# Altium footprint library dem_2_800_800_450.PcbLib: 1 footprints
Each footprint in its own frame and in the unit in brackets; x right, y up, seen from the top. Pads: shape width x height; smd on the part's side, far side on the other; paste and mask are expansions set on the pad; w line width, h text height; cw(c..) or ccw(c..) is an arc to the next point about the centre after c.
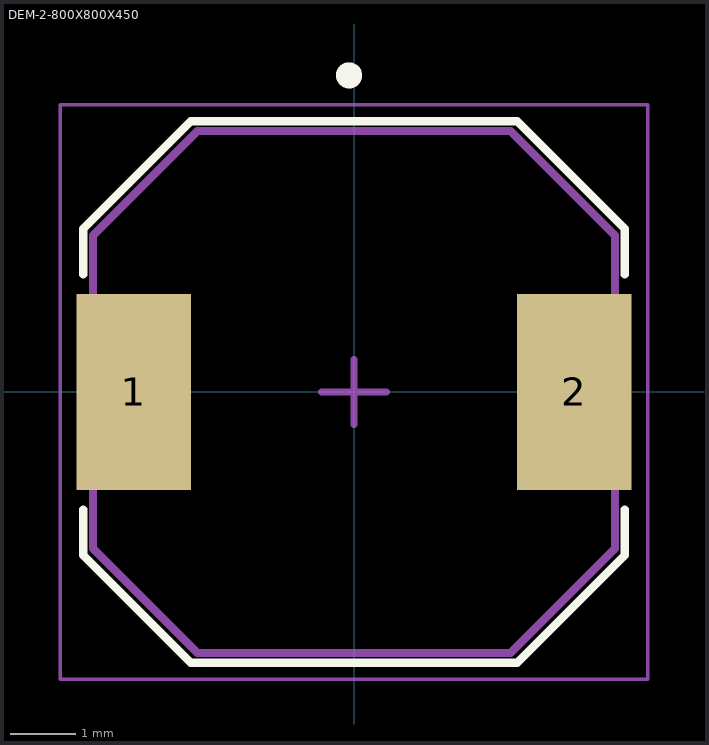
[diagram p0: the footprint, top view; thin cyan lines are the x and y axes]

## DEM-2-800X800X450 [mm] "Precision Wire Wound Inductor, 2-Leads, Body 8,00x8,00mm, IPC Medium Density"
pads (2):
  rect 1.75x3 smd: 1(-3.375,0) 2(3.375,0)
Top Overlay:
  circle w0.2: c-0.076,4.851 r0.1
  lines w0.127: -4.15,-1.8 -4.15,-2.5 -2.5,-4.15 -1.25,-4.15 -0.625,-4.15 0.625,-4.15 1.25,-4.15 2.5,-4.15 4.15,-2.5 4.15,-1.8 ; -4.15,1.8 -4.15,2.5 -2.5,4.15 2.5,4.15 4.15,2.5 4.15,1.8 ; -0.5,4.15 0.5,4.15 ; -0.5,-4.15 0.5,-4.15 -0.5,-4.15
Top Comment:
  text ".Comment" at 1.6,4.597 h1.2
Top Designator:
  text ".Designator" at -0.991,4.597 h1.2
Top Component Outline:
  lines w0.127: -4,-2.4 -2.4,-4 2.4,-4 4,-2.4 4,2.4 2.4,4 -2.4,4 -4,2.4 -4,1.1 -4,-1.1 -4,-2.4
Top Courtyard (Mech15):
  lines w0.05: -4.5,-4.4 -4.5,4.4 4.5,4.4 4.5,-4.4 -4.5,-4.4
  lines w0.1: -0.5,0 0.5,0 ; 0,-0.5 0,0.5
3D body "DEM8045Z-100M.STEP": height 4.5, standoff 0, extent -4,-4 4,4